# Altium footprint library NMH2409SC.PcbLib: 1 footprints
Each footprint in its own frame and in the unit in brackets; x right, y up, seen from the top. Pads: shape width x height; smd on the part's side, far side on the other; paste and mask are expansions set on the pad; w line width, h text height; cw(c..) or ccw(c..) is an arc to the next point about the centre after c.
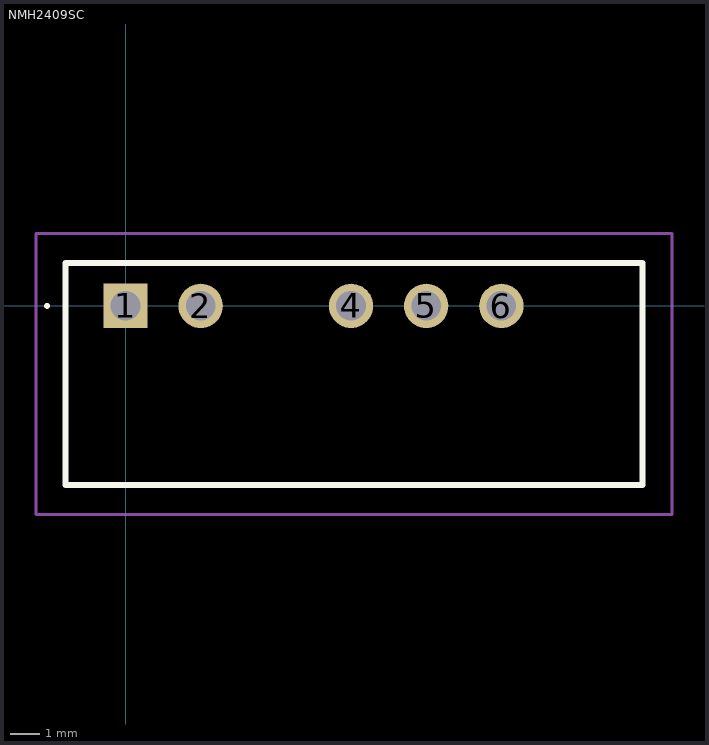
[diagram p0: the footprint, top view; thin cyan lines are the x and y axes]

## NMH2409SC [mm]
pads (5):
  rect 1.5x1.5 hole 1: 1(0,0)
  round 1.5 hole 1: 2(2.54,0) 4(7.62,0) 5(10.16,0) 6(12.7,0)
Top Overlay:
  lines w0.1: -2.7,0 cw(c-2.65,0) -2.6,0 ; -2.7,0 -2.7,0 ; -2.7,0 ccw(c-2.65,0) -2.6,0 ; -2.6,0 -2.6,0
  lines w0.2: -2.03,-6.05 17.47,-6.05 17.47,1.45 -2.03,1.45 -2.03,-6.05
Mechanical 15:
  lines w0.1: -2.03,-6.05 17.47,-6.05 17.47,1.45 -2.03,1.45 -2.03,-6.05
Mechanical 20:
  lines w0.1: -3.03,-7.05 18.47,-7.05 18.47,2.45 -3.03,2.45 -3.03,-7.05